# Altium schematic symbol library dc_power_connectors.SchLib: 5 symbols
Pins are listed as number, name and electrical type; pins without a type are passive.

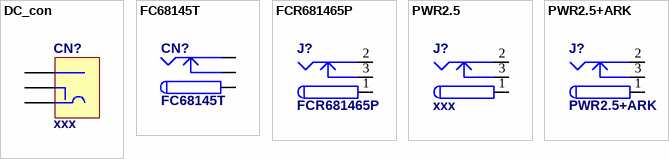
[diagram p0: symbols DC_con to PWR2.5+ARK]

## DC_con
designator CN?, comment xxx
DC 3-pin Socket; Published: 30-Jun-2006
footprint DC3,4/1,3
footprint DC5,5/2,5-2,1
pins: 1, 2, 3

## FC68145T
designator CN?
Cliff FC68145T (DC-8T) DC Power Connector
footprint FC68145T (DC-8T) (Cliff FC68145T (DC-8T))
pins: 1 (power), 2 (power), 3 (power)

## FCR681465P
designator J?
Socket; DC supply; male; 5,5/2,1-2,5mm; 5.5mm; 2.1mm; THT; 5A; 12VDC; Published: 17-Dec-2003; DatasheetDocument: 09-May-2002; Publisher: Altium Limited; ComponentLink1Description: Manufacturer Link; ComponentLink1URL: http://domino.kycon.com/internet/Products.html
signal-integrity model Connector
footprint FCR681465P (Socket; DC supply; male; 5,5/2,1-2,5mm; 5.5mm; 2.1mm; THT; 5A; 12VDC)
pins: 1 (power), 2 (power), 3 (power)

## PWR2.5
designator J?, comment xxx
Low Voltage Power Supply Connector; Published: 17-Dec-2003; DatasheetDocument: 09-May-2002; Publisher: Altium Limited; ComponentLink1Description: Manufacturer Link; ComponentLink1URL: http://domino.kycon.com/internet/Products.html
signal-integrity model Connector
footprint KLD-0202 (DC Power Jack, 2.5mm, KLD Series, PCB Mount)
pins: 1 (power), 1A (power), 1B (power), 2 (power), 2A (power), 2B (power), 3 (power), 3A (power), 3B (power)

## PWR2.5+ARK
designator J?
Low Voltage Power Supply Connector; Published: 17-Dec-2003; DatasheetDocument: 09-May-2002; Publisher: Altium Limited; ComponentLink1Description: Manufacturer Link; ComponentLink1URL: http://domino.kycon.com/internet/Products.html
signal-integrity model Connector
footprint KLD-0202 + ARK (DC Power Jack, 2.5mm, KLD Series, PCB Mount)
pins: 1 (power), 1A (power), 2 (power), 2A (power), 3 (power)